# Altium schematic symbol library BD80FD0WHFP-TR.SchLib: 1 symbol
Pins are listed as number, name and electrical type; pins without a type are passive.

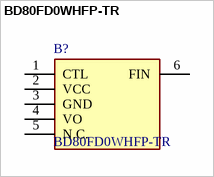
[diagram p0: symbol BD80FD0WHFP-TR]

## BD80FD0WHFP-TR
designator B?
LDO Voltage Regulator, Fixed, 2.5 to 32 V in, 0.4 V Dropout, 8 V/2 A out, HRP-5; Manufacturer_Name: ROHM Semiconductor; Geometry.Height: 2.135mm; Mouser Part Number: 755-BD80FD0WHFP-TR; Mouser Price/Stock: https://www.mouser.co.uk/ProductDetail/ROHM-Semiconductor/BD80FD0WHFP-TR?qs=%252BEew9%252B0nqrCidEQxdXcK7Q%3D%3D; Manufacturer_Part_Number: BD80FD0WHFP-TR; Datasheet Link: https://fscdn.rohm.com/en/products/databook/datasheet/ic/power/linear_regulator/bdxxfd0xxxx-e.pdf
footprint BD80FD0WHFPTR
pins: 1 CTL, 2 VCC, 3 GND, 4 VO, 5 N.C., 6 FIN